# EAGLE library part DF11-18-2DSA_S (library con-hirose-df11)
HEADER
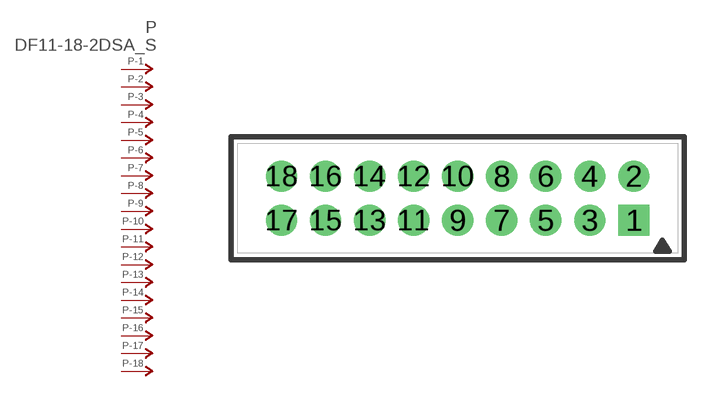
[diagram p20: symbol with the pads of DF11-18DP-2DSA; footprint DF11-18DP-2DSA]

Designator prefix P; gates -1=P-NV -2=P-N -3=P-N -4=P-N -5=P-N -6=P-N -7=P-N -8=P-N -9=P-N -10=P-N -11=P-N -12=P-N -13=P-N -14=P-N -15=P-N -16=P-N -17=P-N -18=P-N

## DF11-18-2DSA_S  [DF11-18DP-2DSA]
1  -1:P  pas
2  -2:P  pas
3  -3:P  pas
4  -4:P  pas
5  -5:P  pas
6  -6:P  pas
7  -7:P  pas
8  -8:P  pas
9  -9:P  pas
10  -10:P  pas
11  -11:P  pas
12  -12:P  pas
13  -13:P  pas
14  -14:P  pas
15  -15:P  pas
16  -16:P  pas
17  -17:P  pas
18  -18:P  pas

## Footprint DF11-18DP-2DSA (pad centres in mm)
HEADER
drill 0.914 square: 1 8,-1
drill 0.914: 2 8,1; 3 6,-1; 4 6,1; 5 4,-1; 6 4,1; 7 2,-1; 8 2,1; 9 0,-1; 10 0,1; 11 -2,-1; 12 -2,1; 13 -4,-1; 14 -4,1; 15 -6,-1; 16 -6,1; 17 -8,-1; 18 -8,1